# Altium footprint library PcbLib1.PcbLib: 35 footprints (part 2 of 3)
Each footprint in its own frame and in the unit in brackets; x right, y up, seen from the top. Pads: shape width x height; smd on the part's side, far side on the other; paste and mask are expansions set on the pad; w line width, h text height; cw(c..) or ccw(c..) is an arc to the next point about the centre after c.
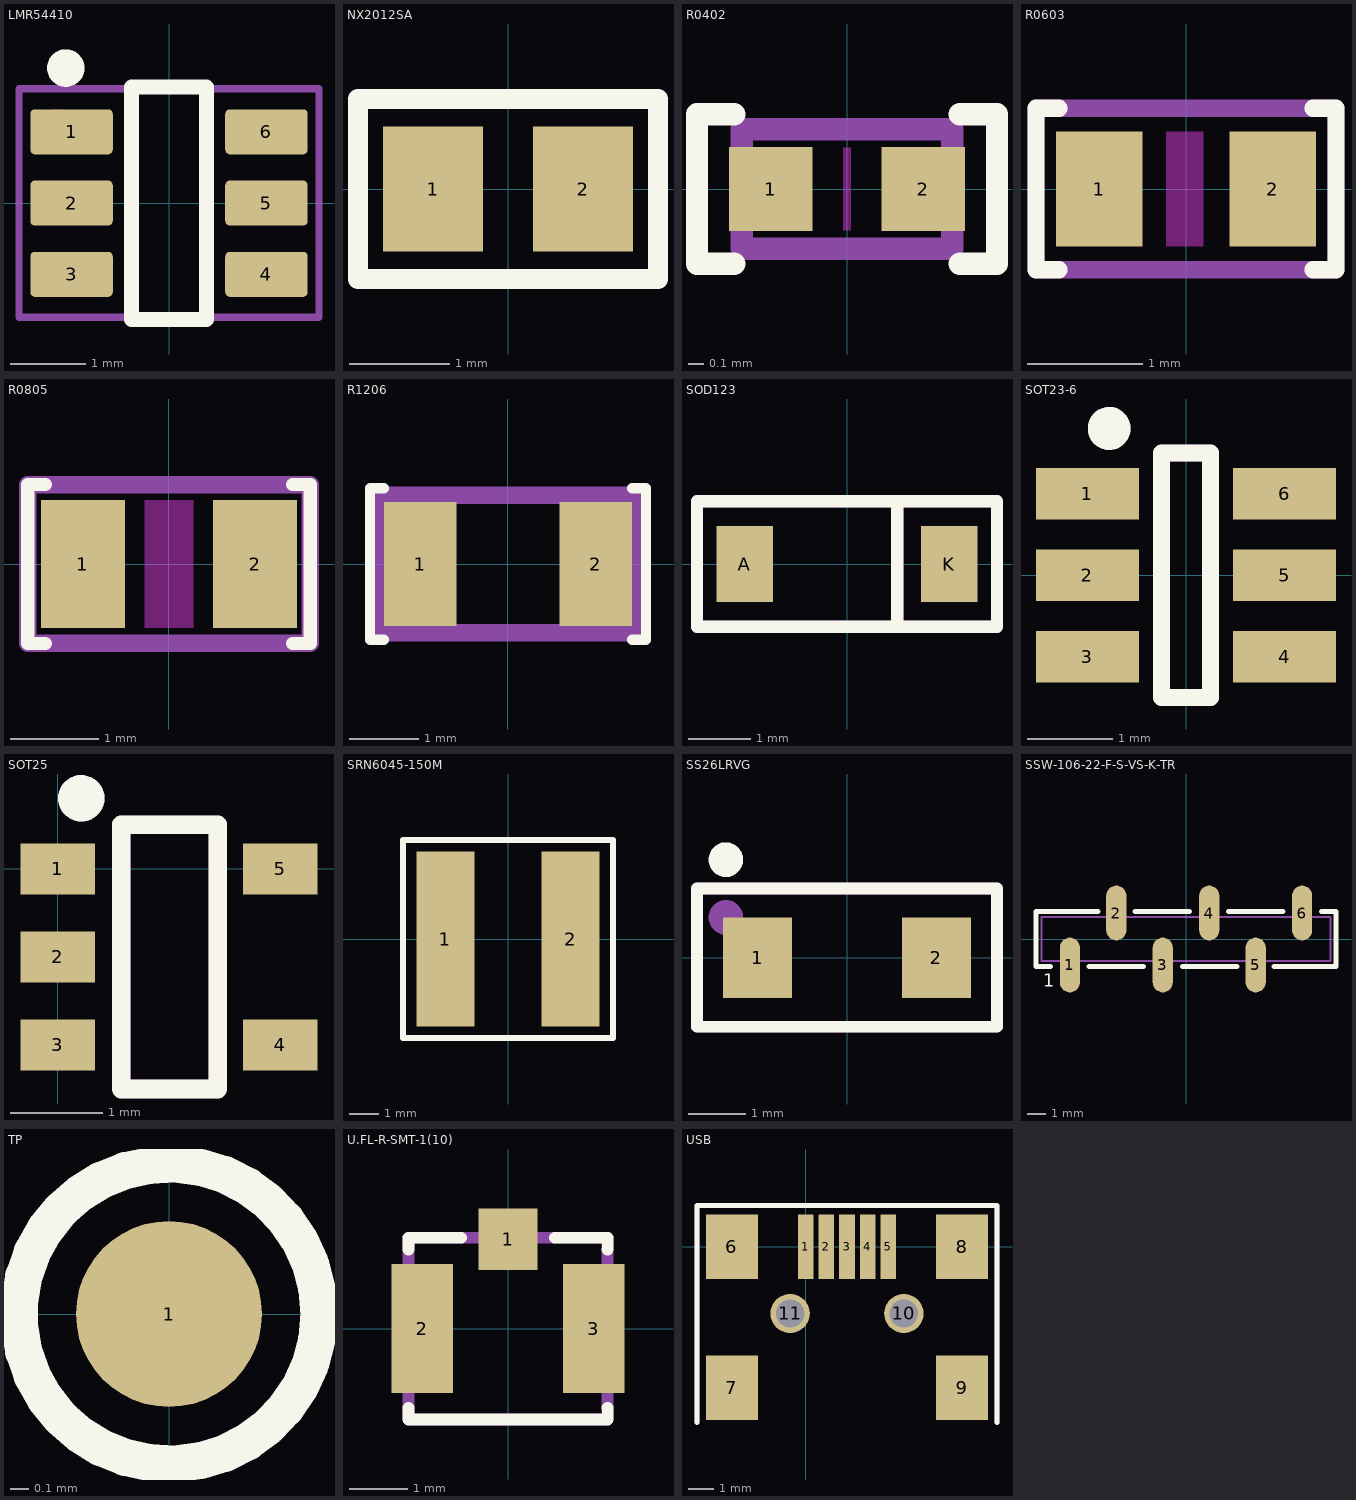
[diagram p1: the footprints below, top view; thin cyan lines are the x and y axes]

## LMR54410 [mm]
height 1.45
pads (6):
  rrect20% 1.1x0.6 smd mask+0.07: 1(-1.3,0.95) 2(-1.3,0) 3(-1.3,-0.95) 4(1.3,-0.95) 5(1.3,0) 6(1.3,0.95)
Top Overlay:
  circle w0.25: c-1.375,1.8 r0.125
  lines w0.2: -0.5,-1.55 -0.5,1.55 0.5,1.55 0.5,-1.55 -0.5,-1.55
Mechanical 29:
  circle w0.25: c-1.475,1 r0.125
  lines w0.1: -2,-1.525 2,-1.525 2,1.525 -2,1.525 -2,-1.525
  text ".Designator" at -4.998,-0.333 h1
3D body "LMR54410.step": height 1.45, standoff 0, extent -1.5,-1.525 1.5,1.525

## NX2012SA [mm]
pads (2):
  rect 1x1.25 smd: 1(-0.75,0) 2(0.75,0)
Top Overlay:
  lines w0.2: -1.5,-0.9 1.5,-0.9 1.5,0.9 -1.5,0.9 -1.5,-0.9
Mechanical 29:
  lines w0.2: -1.5,-0.9 1.5,-0.9 1.5,0.9 -1.5,0.9 -1.5,-0.9
  text "'.Designator'" at -1.1,-0.3 h0.7
3D body "NX2012SA-32.768K-STD-MUB-1.stp": height 0.56, standoff 0.01, extent -1.025,-0.6 1.025,0.6

## PCBComponent_1 [mm]

## R0402 [mil]
pads (2):
  rect 22x22 smd: 1(-20,0) 2(20,0)
Top Layer keep-out:
  rectangle: -0.98,-10.83 0.98,10.83
Top Overlay:
  lines w5.91: -29.53,-19.68 -39.37,-19.68 -39.37,19.68 -29.53,19.68 ; 29.53,-19.68 39.37,-19.68 39.37,19.68 29.53,19.68
Mechanical 29:
  lines w5.91: -27.56,-15.75 27.56,-15.75 27.56,15.75 -27.56,15.75 -27.56,-15.75
  text "'.Designator'" at -17.72,-9.84 h19.68
3D body "Resistor0402.step": height 14.28, standoff 0.5, extent -19.68,-9.84 19.69,9.85

## R0603 [mm]
pads (2):
  rect 0.75x1 smd: 1(-0.75,0) 2(0.75,0)
Top Layer keep-out:
  rectangle: -0.175,-0.5 0.15,0.5
Top Overlay:
  lines w0.15: -1.1,-0.7 -1.3,-0.7 -1.3,0.7 -1.1,0.7 ; 1.1,-0.7 1.3,-0.7 1.3,0.7 1.1,0.7
Mechanical 29:
  lines w0.15: -1.3,-0.7 -1.3,0.7 1.3,0.7 1.3,-0.7 -1.3,-0.7
  text "'.Designator'" at -0.7,-0.375 h0.7
3D body "Resistor0603.step": height 0.46, standoff 0.01, extent -0.8,-0.4 0.8,0.4

## R0805 [mm]
pads (2):
  rect 0.95x1.45 smd: 1(-0.975,0) 2(0.975,0)
Top Layer keep-out:
  rectangle: -0.275,-0.725 0.275,0.725
Top Overlay:
  lines w0.15: -1.4,-0.9 -1.6,-0.9 -1.6,0.9 -1.4,0.9 ; 1.4,-0.9 1.6,-0.9 1.6,0.9 1.4,0.9
Mechanical 29:
  lines w0.2: -1.6,-0.9 -1.6,0.9 1.6,0.9 1.6,-0.9 -1.6,-0.9
  text "'.Designator'" at -0.7,-0.3 h0.7
3D body "Resistor0805.step": height 0.77, standoff 0.01, extent -1.15,-0.675 1.15,0.675

## R1206 [mm]
pads (2):
  rect 1.05x1.8 smd: 1(-1.275,0) 2(1.275,0)
Top Overlay:
  lines w0.15: -1.8,-1.1 -2,-1.1 -2,1.1 -1.8,1.1 ; 1.8,-1.1 2,-1.1 2,1.1 1.8,1.1
Mechanical 29:
  lines w0.254: -1.9,-1 1.9,-1 1.9,1 -1.9,1 -1.9,-1
  text "'.Designator'" at -0.9,-0.3 h0.7
3D body "Resistor1206.step": height 0.61, standoff 0.01, extent -1.6,-0.8 1.6,0.8

## SOD123 [mm]
pads (2):
  rect 0.91x1.22 smd: A(-1.635,0) K(1.635,0)
Top Overlay:
  lines w0.2: 0.8,-1 0.8,1 ; -2.4,-1 2.4,-1 2.4,1 -2.4,1 -2.4,-1
Mechanical 29:
  lines w0.2: 0.8,-1 0.8,1 ; -2.4,-1 2.4,-1 2.4,1 -2.4,1 -2.4,-1
  text "'.Designator'" at -0.9,-0.3 h0.7
3D body "BAT54GWJ.stp": height 1.21, standoff 0.01, extent -1.8,-0.8 1.8,0.8

## SOT23-6 [mm]
pads (6):
  rect 1.2x0.6 smd: 1(-1.15,0.95) 2(-1.15,0) 3(-1.15,-0.95) 4(1.15,-0.95) 5(1.15,0) 6(1.15,0.95)
Top Overlay:
  circle w0.3: c-0.896,1.712 r0.1
  lines w0.2: -0.285,-1.425 0.285,-1.425 0.285,1.425 -0.285,1.425 -0.285,-1.425
Mechanical 29:
  circle w0.3: c-0.896,1.712 r0.1
  lines w0.2: -0.285,-1.425 0.285,-1.425 0.285,1.425 -0.285,1.425 -0.285,-1.425
  text "'.Designator'" at -2.1,2.1 h0.7
3D body "USBLC6-4SC6.STEP": height 1.46, standoff -0.23, extent -1.429,-1.462 1.486,1.462

## SOT25 [mm]
pads (5):
  rect 0.8x0.55 smd: 1(0,0) 2(0,-0.95) 3(0,-1.9) 4(2.4,-1.9) 5(2.4,0)
Top Overlay:
  circle w0.3: c0.254,0.762 r0.1
  lines w0.2: 0.686,-2.375 1.727,-2.375 1.727,0.475 0.686,0.475 0.686,-2.375
Mechanical 29:
  circle w0.3: c0.254,0.762 r0.1
  lines w0.2: 0.686,-2.375 1.727,-2.375 1.727,0.475 0.686,0.475 0.686,-2.375
  text "'.Designator'" at -1.2,1.2 h0.7
3D body "SOT25.STEP": height 1.4, standoff 0, extent -0.225,-2.45 2.625,0.55

## SRN6045-150M [mm]
pads (2):
  rect 2x6 smd: 1(-2.15,0) 2(2.15,0)
Top Overlay:
  lines w0.2: -3.6,-3.4 3.6,-3.4 3.6,3.4 -3.6,3.4 -3.6,-3.4
Mechanical 29:
  lines w0.2: -3.6,-3.4 -3.6,3.4 3.6,3.4 3.6,-3.4 -3.6,-3.4
  text "'.Designator'" at -5.665,-0.417 h1
3D body "srn6045.stp": height 4.51, standoff 0.01, extent -3,-3 3,3

## SS26LRVG [mm]
pads (2):
  rect 1.2x1.4 smd: 1(-1.55,0) 2(1.55,0)
Top Overlay:
  circle w0.3: c-2.1,1.7 r0.15
  lines w0.2: -2.6,-1.2 2.6,-1.2 2.6,1.2 -2.6,1.2 -2.6,-1.2
Mechanical 29:
  circle w0.3: c-2.1,0.7 r0.15
  lines w0.2: -2.6,-1.2 2.6,-1.2 2.6,1.2 -2.6,1.2 -2.6,-1.2
  text ".Designator" at -2.327,-0.294 h1.3
3D body "SS26LRVG.step": height 1.25, standoff 0, extent -1.95,-0.95 1.95,0.95

## SSW-106-22-F-S-VS-K-TR [mm]
pads (6):
  oval 1.1x3 smd paste-2: 1(-6.35,-1.42) 2(-3.81,1.42) 3(-1.27,-1.42) 4(1.27,1.42) 5(3.81,-1.42) 6(6.35,1.42)
Top Overlay:
  lines w0.254: -7.4,-1.5 -8.2,-1.5 -8.2,1.5 -4.8,1.5 ; -5.3,-1.5 -2.3,-1.5 ; -2.8,1.5 0.2,1.5 ; -0.2,-1.5 2.8,-1.5 ; 2.3,1.5 5.3,1.5 ; 4.8,-1.5 8.2,-1.5 8.2,1.5 7.4,1.5
  text "1" at -7.8,-2.6 h0.7
Mechanical 29:
  lines w0.1: -7.9,-1.2 -7.9,1.2 7.9,1.2 7.9,-1.2 -7.9,-1.2
  text "'.Designator'" at -1.5,-0.3 h0.7
3D body "SSW-106-22-F-S-VS.stp": height 9.79, standoff 0.01, extent -7.874,-2.578 7.874,2.578

## TP [mm]
pads (1):
  round 1 smd paste-1: 1(0,0)
Top Overlay:
  circle w0.2: c0,0 r0.806

## U.FL-R-SMT-1(10) [mm]
pads (3):
  rect 1x1.05 smd: 1(0,1.525)
  rect 1.05x2.2 smd: 2(-1.46,0) 3(1.46,0)
Top Overlay:
  lines w0.2: -0.8,1.55 -0.8,1.55 -1.7,1.55 -1.7,1.35 ; 0.8,1.55 0.8,1.55 1.7,1.55 1.7,1.35 ; -1.7,-1.35 -1.7,-1.35 ; -1.7,-1.35 -1.7,-1.55 1.7,-1.55 1.7,-1.35 ; -1.7,1.35 -1.7,1.35 ; 1.7,-1.35 1.7,-1.35 ; 1.7,1.35 1.7,1.35
Mechanical 29:
  lines w0.2: -1.7,-1.55 1.7,-1.55 1.7,1.55 -1.7,1.55 -1.7,-1.55
  text "'.Designator'" at -0.9,-0.425 h0.8
3D body "U.FL-R-SMT-1.stp": height 1.26, standoff 0.01, extent -1.5,-1.575 1.5,1.525

## USB [mm]
pads (11):
  rect 0.6x2.5 smd mask+0.06: 1(0,0) 2(0.8,0) 3(1.6,0) 4(2.4,0) 5(3.2,0)
  rect 2x2.5 smd: 6(-2.85,0) 7(-2.85,-5.45) 8(6.05,0) 9(6.05,-5.45)
  round 1.524 hole 1.1: 10(3.8,-2.58) 11(-0.6,-2.58)
Top Overlay:
  lines w0.2: -4.2,-6.8 -4.2,1.6 7.4,1.6 7.4,-6.8
Mechanical 29:
  lines w0.2: -4.2,-6.8 -4.2,1.6 7.4,1.6 7.4,-6.8
  text "'.Designator'" at -2.3,-4.6 h0.7
3D body "USB_connector.stp": height 4.14, standoff -0.99, extent -3.398,-8.46 6.598,1.04